# EAGLE library part USB_WURTH_629105150521 (library Connectors)
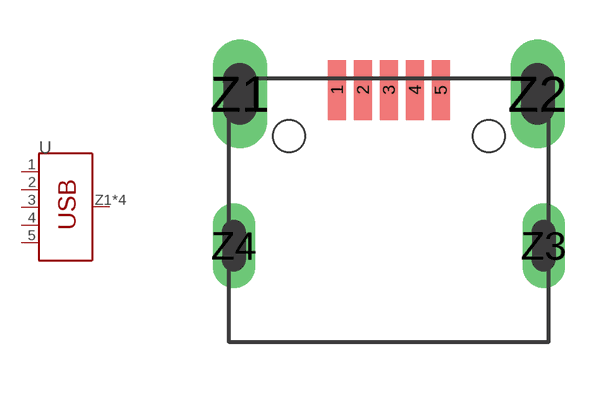
[diagram p5: symbol with the pads of 629105150521; footprint 629105150521]

Designator prefix -

## USB_WURTH_629105150521  [629105150521]
1  VBUS  pwr
2  D-
3  D+
4  ID
5  GND  pwr
Z1  SHIELD
Z2  SHIELD
Z3  SHIELD
Z4  SHIELD

## Footprint 629105150521 (pad centres in mm)
629105150521 Micro Type B Horizontal SMT - 3A current at Pin1 & Pin 5 - with Pegs
smd 0.45 x 1.5: 1 -1.3,3.9; 2 -0.65,3.9; 3 0,3.9; 4 0.65,3.9; 5 1.3,3.9
drill 0.85 pad 0.95 long: Z1 -3.725,3.8; Z2 3.725,3.8
drill 0.55 pad 0.9 long: Z3 3.875,0; Z4 -3.875,0
hole 0.8 at -2.5,2.75
hole 0.8 at 2.5,2.75